# Altium footprint library FOC_DRV8323.PcbLib: 20 footprints (part 1 of 2)
Each footprint in its own frame and in the unit in brackets; x right, y up, seen from the top. Pads: shape width x height; smd on the part's side, far side on the other; paste and mask are expansions set on the pad; w line width, h text height; cw(c..) or ccw(c..) is an arc to the next point about the centre after c.
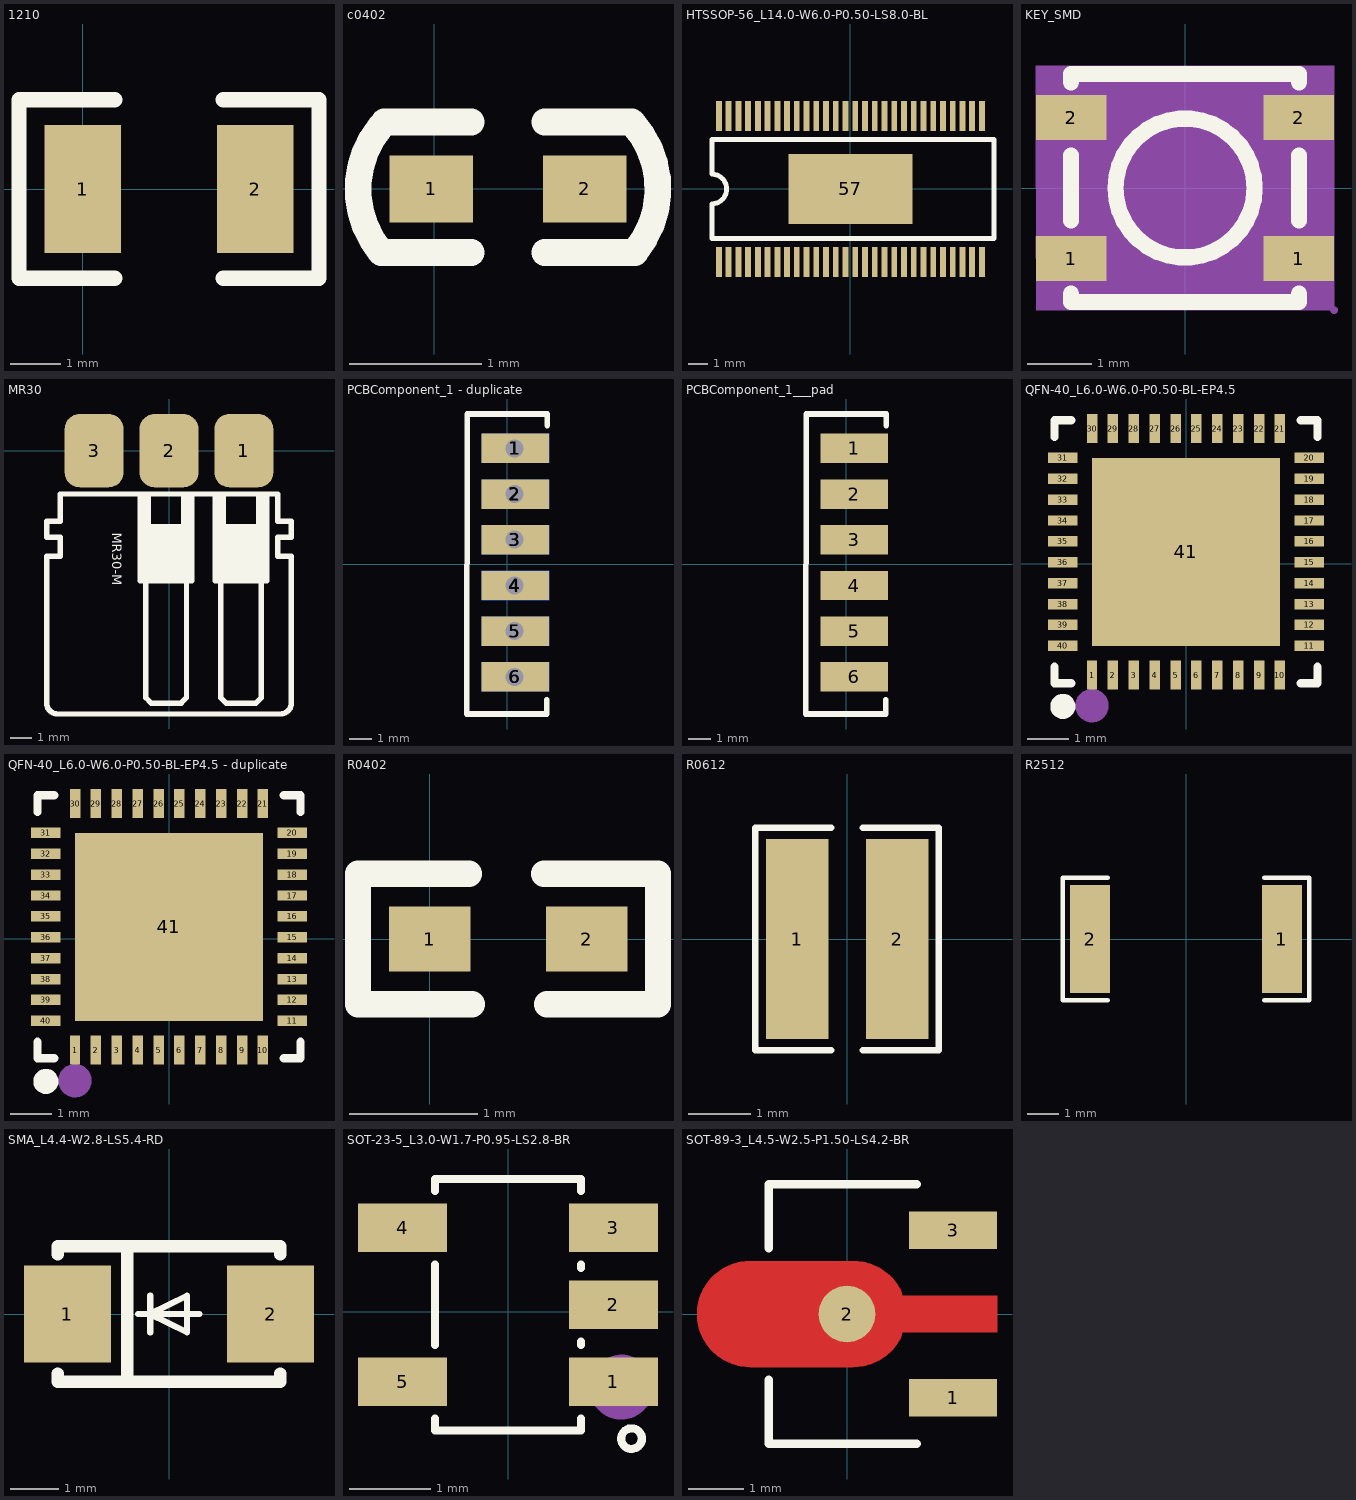
[diagram p0: the footprints below, top view; thin cyan lines are the x and y axes]

## 1210 [mil]
pads (2):
  rect 60x100 smd: 1(0,0) 2(135,0)
Top Overlay:
  lines w12: 25,-70 -50,-70 -50,70 25,70 ; 110,-70 185,-70 185,70 110,70
3D body "User Library-SMD CAPACITOR.sldprt": height 30.35, standoff -0.35, extent 4.01,-49.21 129.99,49.21

## c0402 [mil]
pads (2):
  rect 25x20 smd: 1(-1,0) 2(45,0)
Top Overlay:
  lines w8: -15.94,-19 11,-19 ; -15.94,-18.95 cw(c6.42,-0.05) -15.95,18.84 ; -15,20 11,20 ; 33,-19 59.95,-19 ; 33,20 59,20 cw(c37.58,0.05) 59.95,-18.84
3D body "cap_0402.STEP": height 19.68, standoff 0, extent 2.31,-10 41.68,9.69

## HTSSOP-56_L14.0-W6.0-P0.50-LS8.0-BL [mm]
pads (57):
  rect 0.3x1.55 smd paste+0 mask+0.102: 1(-6.75,-3.75) 2(-6.25,-3.75) 3(-5.75,-3.75) 4(-5.25,-3.75) 5(-4.75,-3.75) 6(-4.25,-3.75) 7(-3.75,-3.75) 8(-3.25,-3.75) 9(-2.75,-3.75) 10(-2.25,-3.75) 11(-1.75,-3.75) 12(-1.25,-3.75) 13(-0.75,-3.75) 14(-0.25,-3.75) 15(0.25,-3.75) 16(0.75,-3.75) 17(1.25,-3.75) 18(1.75,-3.75) 19(2.25,-3.75) 20(2.75,-3.75) 21(3.25,-3.75) 22(3.75,-3.75) 23(4.25,-3.75) 24(4.75,-3.75) 25(5.25,-3.75) 26(5.75,-3.75) 27(6.25,-3.75) 28(6.75,-3.75) 29(6.75,3.75) 30(6.25,3.75) 31(5.75,3.75) 32(5.25,3.75) 33(4.75,3.75) 34(4.25,3.75) 35(3.75,3.75) 36(3.25,3.75) 37(2.75,3.75) 38(2.25,3.75) 39(1.75,3.75) 40(1.25,3.75) 41(0.75,3.75) 42(0.25,3.75) 43(-0.25,3.75) 44(-0.75,3.75) 45(-1.25,3.75) 46(-1.75,3.75) 47(-2.25,3.75) 48(-2.75,3.75) 49(-3.25,3.75) 50(-3.75,3.75) 51(-4.25,3.75) 52(-4.75,3.75) 53(-5.25,3.75) 54(-5.75,3.75) 55(-6.25,3.75) 56(-6.75,3.75)
  rect 6.35x3.61 smd paste+0 mask+0.102: 57(0,0)
Top Overlay:
  lines w0.254: -7.112,-2.54 7.366,-2.54 7.366,2.54 -7.112,2.54 -7.112,0.762 cw(c-7.112,0) -7.112,-0.762 -7.112,-2.54

## KEY_SMD [mm]
height 3
pads (4):
  rect 1.1x0.7 smd: 1(-1.775,-1.1) 1(1.775,-1.1) 2(-1.775,1.1) 2(1.775,1.1)
Top Overlay:
  circle w0.254: c0,0 r1.085
  lines w0.254: -1.778,-1.651 -1.778,-1.778 1.778,-1.778 1.778,-1.651 ; -1.778,-0.508 -1.778,0.508 ; -1.778,1.651 -1.778,1.778 1.778,1.778 1.778,1.651 ; 1.778,-0.508 1.778,0.508
Mechanical 4:
  region: -2.325,1.905 2.325,1.905 2.325,-1.905 -2.325,-1.905
Mechanical 5:
  region: 1.225,-0.75 2.325,-0.75 2.325,-1.45 1.225,-1.45
  region: -2.325,-0.75 -1.225,-0.75 -1.225,-1.45 -2.325,-1.45
  region: 1.225,1.45 2.325,1.45 2.325,0.75 1.225,0.75
  region: -2.325,1.45 -1.225,1.45 -1.225,0.75 -2.325,0.75
Mechanical 6:
  circle w0.06: c2.325,-1.905 r0.03
Mechanical 15:
  lines w0.003: -0.011,0.478 0.04,0.529

## MR30 [mm]
pads (3):
  rrect50% 2.75x3.429 smd: 1(3.5,0) 2(0,0) 3(-3.5,0)
Top Overlay:
  region: 4.572,-2.025 4.191,-2.025 4.191,-3.549 2.54,-3.549 2.54,-2.025 2.159,-2.025 2.159,-6.089 4.445,-6.089 4.572,-6.089
  region: 1.072,-2.025 0.691,-2.025 0.691,-3.549 -0.96,-3.549 -0.96,-2.025 -1.341,-2.025 -1.341,-6.089 0.945,-6.089 1.072,-6.089
  lines w0.254: -1.341,-2.025 -1.341,-6.089 -1.087,-6.089 ; -0.96,-2.025 -0.96,-3.549 0.691,-3.549 0.691,-2.025 ; 1.072,-2.025 1.072,-6.089 0.818,-6.089 ; 2.159,-2.025 2.159,-6.089 2.413,-6.089 ; 2.54,-2.025 2.54,-3.549 4.191,-3.549 4.191,-2.025 ; 4.572,-2.025 4.572,-6.089 4.318,-6.089 ; -1.087,-6.089 0.818,-6.089 ; -1.087,-6.089 -1.087,-11.55 -0.833,-11.804 0.056,-11.804 0.564,-11.804 0.818,-11.55 0.818,-6.089 ; 2.413,-6.089 4.318,-6.089 ; 2.413,-6.089 2.413,-11.55 2.667,-11.804 3.556,-11.804 4.064,-11.804 4.318,-11.55 4.318,-6.089 ; -5.715,-11.804 ccw(c-5.207,-11.804) -5.207,-12.312 0,-12.312 5.207,-12.312 ccw(c5.207,-11.804) 5.715,-11.804 5.715,-11.331 5.715,-4.946 5.08,-4.946 5.08,-4.057 5.715,-4.057 5.715,-3.295 5.08,-3.295 5.08,-2.025 0,-2.025 -5.08,-2.025 -5.08,-3.295 -5.715,-3.295 -5.715,-4.057 -5.08,-4.057 -5.08,-4.946 -5.715,-4.946 -5.715,-11.331 -5.715,-11.804
  text "MR30-M" at -2.816,-3.844 h0.76
3D body "mr30-m.step": height 2.45, standoff -2.46, extent -5.95,-12.124 5.95,1.276

## PCBComponent_1 [mm]

## PCBComponent_1 - duplicate [mm]
pads (18):
  round 1.3 hole 0.8 paste+0 mask+0.102: 1(0.337,5.146) 2(0.337,3.114) 3(0.337,1.082) 4(0.337,-0.95) 5(0.337,-2.982) 6(0.337,-5.014)
  rect 3x1.3 smd far side paste+0 mask+0.102: 1(0.37,5.143) 2(0.37,3.103) 3(0.37,1.073) 4(0.37,-0.957) 5(0.37,-2.987) 6(0.37,-5.017)
  rect 3x1.3 smd paste+0 mask+0.102: 1(0.37,5.143) 2(0.37,3.103) 3(0.37,1.073) 4(0.37,-0.957) 5(0.37,-2.987) 6(0.37,-5.017)
Top Overlay:
  lines w0.254: 1.767,-6.035 1.767,-6.67 -1.789,-6.67 -1.767,6.67 1.789,6.67 1.789,6.162
Bottom Overlay:
  lines w0.254: 1.767,-6.035 1.767,-6.67 -1.789,-6.67 -1.767,6.67 1.789,6.67 1.789,6.162

## PCBComponent_1___pad [mm]
pads (6):
  rect 3x1.3 smd paste+0 mask+0.102: 1(0.37,5.143) 2(0.37,3.103) 3(0.37,1.073) 4(0.37,-0.957) 5(0.37,-2.987) 6(0.37,-5.017)
Top Overlay:
  lines w0.254: 1.767,-6.035 1.767,-6.67 -1.789,-6.67 -1.767,6.67 1.789,6.67 1.789,6.162
Bottom Overlay:
  lines w0.254: 1.767,-6.035 1.767,-6.67 -1.789,-6.67 -1.767,6.67 1.789,6.67 1.789,6.162

## QFN-40_L6.0-W6.0-P0.50-BL-EP4.5 [mm]
pads (41):
  rect 0.25x0.7 smd paste-100 mask+0.051: 1(-2.25,-2.659) 2(-1.75,-2.659) 3(-1.25,-2.659) 4(-0.75,-2.659) 5(-0.25,-2.659) 6(0.25,-2.659) 7(0.75,-2.659) 8(1.25,-2.659) 9(1.75,-2.659) 10(2.25,-2.659) 21(2.25,3.241) 22(1.75,3.241) 23(1.25,3.241) 24(0.75,3.241) 25(0.25,3.241) 26(-0.25,3.241) 27(-0.75,3.241) 28(-1.25,3.241) 29(-1.75,3.241) 30(-2.25,3.241)
  rect 0.7x0.25 smd paste-100 mask+0.051: 11(2.95,-1.958) 12(2.95,-1.459) 13(2.95,-0.958) 14(2.95,-0.459) 15(2.95,0.042) 16(2.95,0.541) 17(2.95,1.042) 18(2.95,1.541) 19(2.95,2.041) 20(2.95,2.541) 31(-2.95,2.541) 32(-2.95,2.041) 33(-2.95,1.541) 34(-2.95,1.042) 35(-2.95,0.541) 36(-2.95,0.042) 37(-2.95,-0.459) 38(-2.95,-0.958) 39(-2.95,-1.459) 40(-2.95,-1.958)
  rect 4.5x4.5 smd paste-100 mask+0.051: 41(0,0.292)
Top Overlay:
  lines w0.2: -3.15,-2.459 -3.15,-2.858 -2.75,-2.858 ; -3.15,3.041 -3.15,3.442 -2.75,3.442 ; 2.75,-2.858 3.15,-2.858 3.15,-2.459 ; 2.75,3.442 3.15,3.442 3.15,3.041
  lines w0.3: -2.949,-3.259 ccw(c-2.948,-3.409) -2.946,-3.259
Top Paste:
  drawing of 41 lines, arcs and shapes, not listed
Mechanical 15:
  circle w0.4: c-2.25,-3.392 r0.2

## QFN-40_L6.0-W6.0-P0.50-BL-EP4.5 - duplicate [mm]
pads (41):
  rect 0.25x0.7 smd paste-100 mask+0.051: 1(-2.25,-2.659) 2(-1.75,-2.659) 3(-1.25,-2.659) 4(-0.75,-2.659) 5(-0.25,-2.659) 6(0.25,-2.659) 7(0.75,-2.659) 8(1.25,-2.659) 9(1.75,-2.659) 10(2.25,-2.659) 21(2.25,3.241) 22(1.75,3.241) 23(1.25,3.241) 24(0.75,3.241) 25(0.25,3.241) 26(-0.25,3.241) 27(-0.75,3.241) 28(-1.25,3.241) 29(-1.75,3.241) 30(-2.25,3.241)
  rect 0.7x0.25 smd paste-100 mask+0.051: 11(2.95,-1.958) 12(2.95,-1.459) 13(2.95,-0.958) 14(2.95,-0.459) 15(2.95,0.042) 16(2.95,0.541) 17(2.95,1.042) 18(2.95,1.541) 19(2.95,2.041) 20(2.95,2.541) 31(-2.95,2.541) 32(-2.95,2.041) 33(-2.95,1.541) 34(-2.95,1.042) 35(-2.95,0.541) 36(-2.95,0.042) 37(-2.95,-0.459) 38(-2.95,-0.958) 39(-2.95,-1.459) 40(-2.95,-1.958)
  rect 4.5x4.5 smd paste-100 mask+0.051: 41(0,0.292)
Top Overlay:
  lines w0.2: -3.15,-2.459 -3.15,-2.858 -2.75,-2.858 ; -3.15,3.041 -3.15,3.442 -2.75,3.442 ; 2.75,-2.858 3.15,-2.858 3.15,-2.459 ; 2.75,3.442 3.15,3.442 3.15,3.041
  lines w0.3: -2.949,-3.259 ccw(c-2.948,-3.409) -2.946,-3.259
Top Paste:
  drawing of 41 lines, arcs and shapes, not listed
Mechanical 15:
  circle w0.4: c-2.25,-3.392 r0.2

## R0402 [mil] "1/16W"
pads (2):
  rect 25x20 smd: 1(0,0) 2(48.2,0)
Top Overlay:
  lines w8: 12,20 -22,20 -22,-20 13,-20 ; 35,20 70,20 70,-20 36,-20
3D body "R0402.STEP": height 13.78, standoff 0, extent 4.71,-9.78 44.09,9.9

## R0612 [mm]
pads (2):
  rect 1x3.2 smd paste+0 mask+0.051: 1(-0.8,0) 2(0.8,0)
Top Overlay:
  lines w0.102: -0.25,-1.78 -1.47,-1.78 -1.47,1.78 -0.25,1.78 ; 0.25,-1.78 1.47,-1.78 1.47,1.78 ; 0.25,1.78 1.45,1.78

## R2512 [mm]
pads (2):
  rect 1.283x3.456 smd paste-100 mask+0.051: 1(3.066,0) 2(-3.066,0)
Top Overlay:
  lines w0.152: -2.501,-1.957 -3.936,-1.957 -3.936,1.957 -2.501,1.957 ; 2.501,-1.957 3.936,-1.957 3.936,1.957 2.501,1.957
Top Paste:
  region: 2.425,1.628 2.425,0.688 2.525,0.588 2.761,0.588 2.861,0.488 2.861,-0.488 2.761,-0.588 2.525,-0.588 2.425,-0.688 2.425,-1.628 2.525,-1.728 3.608,-1.728 3.708,-1.628 3.708,1.628 3.608,1.728 2.525,1.728
  region: -2.425,1.628 -2.425,0.688 -2.525,0.588 -2.761,0.588 -2.861,0.488 -2.861,-0.488 -2.761,-0.588 -2.525,-0.588 -2.425,-0.688 -2.425,-1.628 -2.525,-1.728 -3.608,-1.728 -3.708,-1.628 -3.708,1.628 -3.608,1.728 -2.525,1.728

## SMA_L4.4-W2.8-LS5.4-RD [mm]
pads (2):
  rect 1.8x2 smd paste+0 mask+0.102: 1(-2.1,0) 2(2.1,0)
Top Overlay:
  lines w0.127: -0.643,0 0.627,0 ; -0.389,-0.381 -0.389,0 ; -0.389,0.381 -0.389,0 ; -0.389,0 0.373,-0.381 0.373,0 0.373,0.381 -0.389,0
  lines w0.254: -2.3,-1.231 -2.3,-1.4 2.3,-1.4 2.3,-1.231 ; -2.3,1.231 -2.3,1.4 2.3,1.4 2.3,1.231 ; -0.864,-1.4 -0.864,1.4

## SOT-23-5_L3.0-W1.7-P0.95-LS2.8-BR [mm]
pads (5):
  rect 1.1x0.6 smd paste+0 mask+0.051: 1(1.3,-0.861) 2(1.3,0.089) 3(1.3,1.039) 4(-1.3,1.039) 5(-1.3,-0.861)
Top Overlay:
  circle w0.1: c1.524,-1.562 r0.127
  lines w0.1: -0.9,-1.315 -0.9,-1.461 0.9,-1.461 0.9,-1.315 ; -0.9,-0.407 -0.9,0.585 ; -0.9,1.493 -0.9,1.639 0.9,1.639 0.9,1.493 ; 0.9,-0.407 0.9,-0.365 ; 0.9,0.543 0.9,0.585
Mechanical 15:
  circle w0.4: c1.397,-0.927 r0.2

## SOT-89-3_L4.5-W2.5-P1.50-LS4.2-BR [mm]
pads (3):
  rect 1.575x0.672 smd paste+0 mask+0.051: 1(1.901,-1.5) 3(1.901,1.5)
  round 1.016 smd: 2(0,0)
Top Layer:
  region: -1.739,0.95 0.116,0.95 0.16,0.949 0.204,0.946 0.249,0.941 0.293,0.933 0.336,0.924 0.379,0.913 0.422,0.899 0.464,0.884 0.505,0.867 0.545,0.847 0.584,0.826 0.622,0.804 0.659,0.779 0.695,0.753 0.73,0.725 0.763,0.695 0.795,0.664 0.825,0.631 0.854,0.597 0.881,0.562 0.907,0.525 0.931,0.488 0.953,0.449 0.973,0.409 0.991,0.33 2.688,0.33 2.688,-0.33 0.991,-0.33 0.973,-0.409 0.953,-0.449 0.931,-0.488 0.907,-0.526 0.881,-0.562 0.854,-0.597 0.825,-0.631 0.795,-0.664 0.763,-0.695 0.73,-0.725 0.695,-0.753 0.659,-0.779 0.622,-0.804 0.584,-0.826 0.545,-0.847 0.505,-0.867 0.464,-0.884 0.422,-0.899 0.379,-0.913 0.336,-0.924 0.293,-0.933 0.249,-0.941 0.204,-0.946 0.16,-0.949 0.116,-0.95 -1.739,-0.95 -1.783,-0.949 -1.828,-0.946 -1.872,-0.941 -1.916,-0.933 -1.959,-0.924 -2.002,-0.913 -2.045,-0.899 -2.087,-0.884 -2.128,-0.867 -2.168,-0.847 -2.207,-0.826 -2.245,-0.804 -2.283,-0.779 -2.318,-0.753 -2.353,-0.725 -2.386,-0.695 -2.418,-0.664 -2.449,-0.631 -2.477,-0.597 -2.505,-0.562 -2.53,-0.526 -2.554,-0.488 -2.576,-0.449 -2.596,-0.409 -2.614,-0.369 -2.631,-0.327 -2.645,-0.285 -2.657,-0.242 -2.668,-0.199 -2.676,-0.155 -2.682,-0.111 -2.686,-0.067 -2.688,-0.022 -2.688,0.022 -2.686,0.067 -2.682,0.111 -2.676,0.155 -2.668,0.199 -2.657,0.242 -2.645,0.285 -2.631,0.327 -2.614,0.369 -2.596,0.409 -2.576,0.449 -2.554,0.488 -2.53,0.525 -2.505,0.562 -2.477,0.597 -2.449,0.631 -2.418,0.664 -2.386,0.695 -2.353,0.725 -2.318,0.753 -2.283,0.779 -2.245,0.804 -2.207,0.826 -2.168,0.847 -2.128,0.867 -2.087,0.884 -2.045,0.899 -2.002,0.913 -1.959,0.924 -1.916,0.933 -1.872,0.941 -1.828,0.946 -1.783,0.949
Top Overlay:
  lines w0.152: -1.405,-1.177 -1.405,-2.326 1.247,-2.326 ; -1.405,1.178 -1.405,2.326 1.247,2.326
Mechanical 15:
  circle w0.3: c2.26,-1.5 r0.15